# Altium schematic symbol library IC_Memory.SchLib: 4 symbols
Pins are listed as number, name and electrical type; pins without a type are passive.

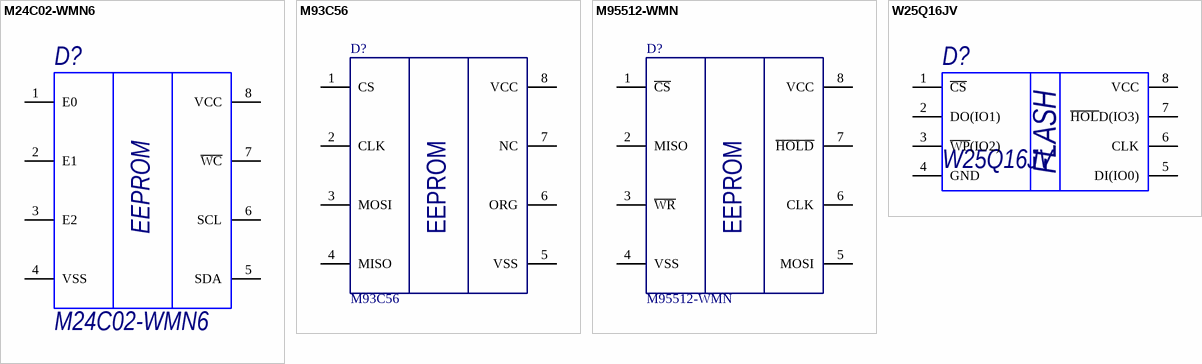
[diagram p0: symbols M24C02-WMN6 to W25Q16JV]

## M24C02-WMN6
designator D?
Микросхема EEPROM; ComponentDescription: =ComponentTypе+', '+Comment+', '+Package; ComponentTypе: Микросхема EEPROM
footprint 8-SOIC (SOIC, 8-Leads, Body 4,90x3,90mm, Pitch 1,27mm, IPC Medium Density)
pins: 1 E0, 2 E1, 3 E2, 4 VSS, 5 SDA, 6 SCL, 7 ~{WC}, 8 VCC
text: EEPROM

## M93C56
designator D?
Микросхема EEPROM; ComponentDescription: =ComponentTypе+', '+Comment+', '+Package; ComponentTypе: Микросхема EEPROM
footprint 8-SOIC (SOIC, 8-Leads, Body 4,90x3,90mm, Pitch 1,27mm, IPC Medium Density)
pins: 1 CS, 2 CLK, 3 MOSI, 4 MISO, 5 VSS, 6 ORG, 7 NC, 8 VCC
text: EEPROM

## M95512-WMN
designator D?
Микросхема EEPROM; ComponentDescription: =ComponentTypе+', '+Comment+', '+Package; ComponentTypе: Микросхема EEPROM
footprint 8-SOIC (SOIC, 8-Leads, Body 4,90x3,90mm, Pitch 1,27mm, IPC Medium Density)
pins: 1 ~{CS}, 2 MISO, 3 ~{WR}, 4 VSS, 5 MOSI, 6 CLK, 7 ~{HOLD}, 8 VCC
text: EEPROM

## W25Q16JV
designator D?
Микросхема FLASH; ComponentDescription: =ComponentTypе+', '+Comment+', '+Package; ComponentTypе: Микросхема FLASH
footprint 8-SOIC (SOIC, 8-Leads, Body 4,90x3,90mm, Pitch 1,27mm, IPC Medium Density)
footprint SOIC127P600X175-8N
footprint SOIC127P790X216-8N
pins: 1 ~{CS}, 2 DO(IO1), 3 ~{WP}(IO2), 4 GND, 5 DI(IO0), 6 CLK, 7 ~{HOL}D(IO3), 8 VCC
1 alternate drawing of the same symbol
text: FLASH